# Altium footprint library SOT23-3P95_285X130L45X42N.PcbLib: 1 footprints
Each footprint in its own frame and in the unit in brackets; x right, y up, seen from the top. Pads: shape width x height; smd on the part's side, far side on the other; paste and mask are expansions set on the pad; w line width, h text height; cw(c..) or ccw(c..) is an arc to the next point about the centre after c.
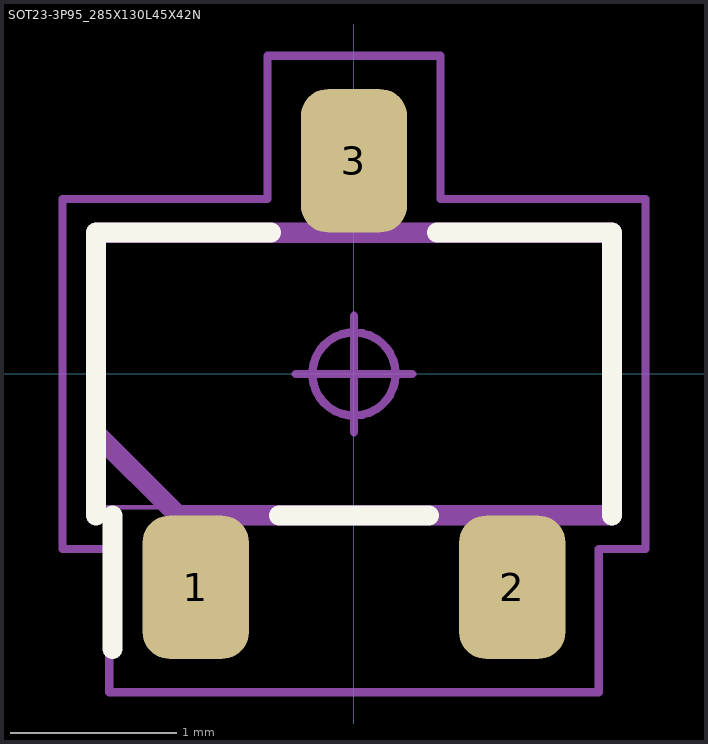
[diagram p0: the footprint, top view; thin cyan lines are the x and y axes]

## SOT23-3P95_285X130L45X42N [mm] "Small Outline Transistor, SOT-23 Type, 0.95 mm pitch; 3 pin, 3.00 mm L X 1.60 mm W X 1.30 mm H Body"
height 1.3
pads (3):
  rrect50% 0.637x0.86 smd: 1(-0.95,-1.28) 2(0.95,-1.28) 3(0,1.28)
Top Overlay:
  lines w0.12: -1.55,-0.85 -1.55,0.85 -0.499,0.85 ; -1.449,-1.65 -1.449,-0.85 ; -0.451,-0.85 0.451,-0.85 ; 0.499,0.85 1.55,0.85 1.55,-0.85
Mechanical 3:
  lines w0.12: -1.55,-0.355 -1.055,-0.85 1.55,-0.85 1.55,0.85 -1.55,0.85 -1.55,-0.355
Mechanical 5:
  lines w0.025: -1.5,-0.8 -1.5,0.8 1.5,0.8 1.5,-0.8 -1.5,-0.8 ; -1.162,-1.425 -0.737,-1.425 -0.737,-0.975 -1.162,-0.975 -1.162,-1.425 ; -0.212,0.975 0.212,0.975 0.212,1.425 -0.212,1.425 -0.212,0.975 ; 0.737,-1.425 1.162,-1.425 1.162,-0.975 0.737,-0.975 0.737,-1.425
Mechanical 7:
  circle w0.05: c0,0 r0.25
  lines w0.05: -0.35,0 0.35,0 ; 0,-0.35 0,0.35 ; -1.75,-1.05 -1.75,1.05 -0.519,1.05 -0.519,1.91 0.519,1.91 0.519,1.05 1.75,1.05 1.75,-1.05 1.469,-1.05 1.469,-1.91 -1.469,-1.91 -1.469,-1.05 -1.75,-1.05
Mechanical 9:
  text "'.Designator'" at -5.817,-0.271 h1.02
3D body "SOT23-3P95_285X130L45X42.STEP": height 1.3, standoff 0, extent -1.5,-1.425 1.5,1.425
3D body: height 1.3, standoff 0, extent -1.75,-1.91 1.75,1.91